# Altium schematic symbol library interface.SchLib: 17 symbols
Pins are listed as number, name and electrical type; pins without a type are passive.

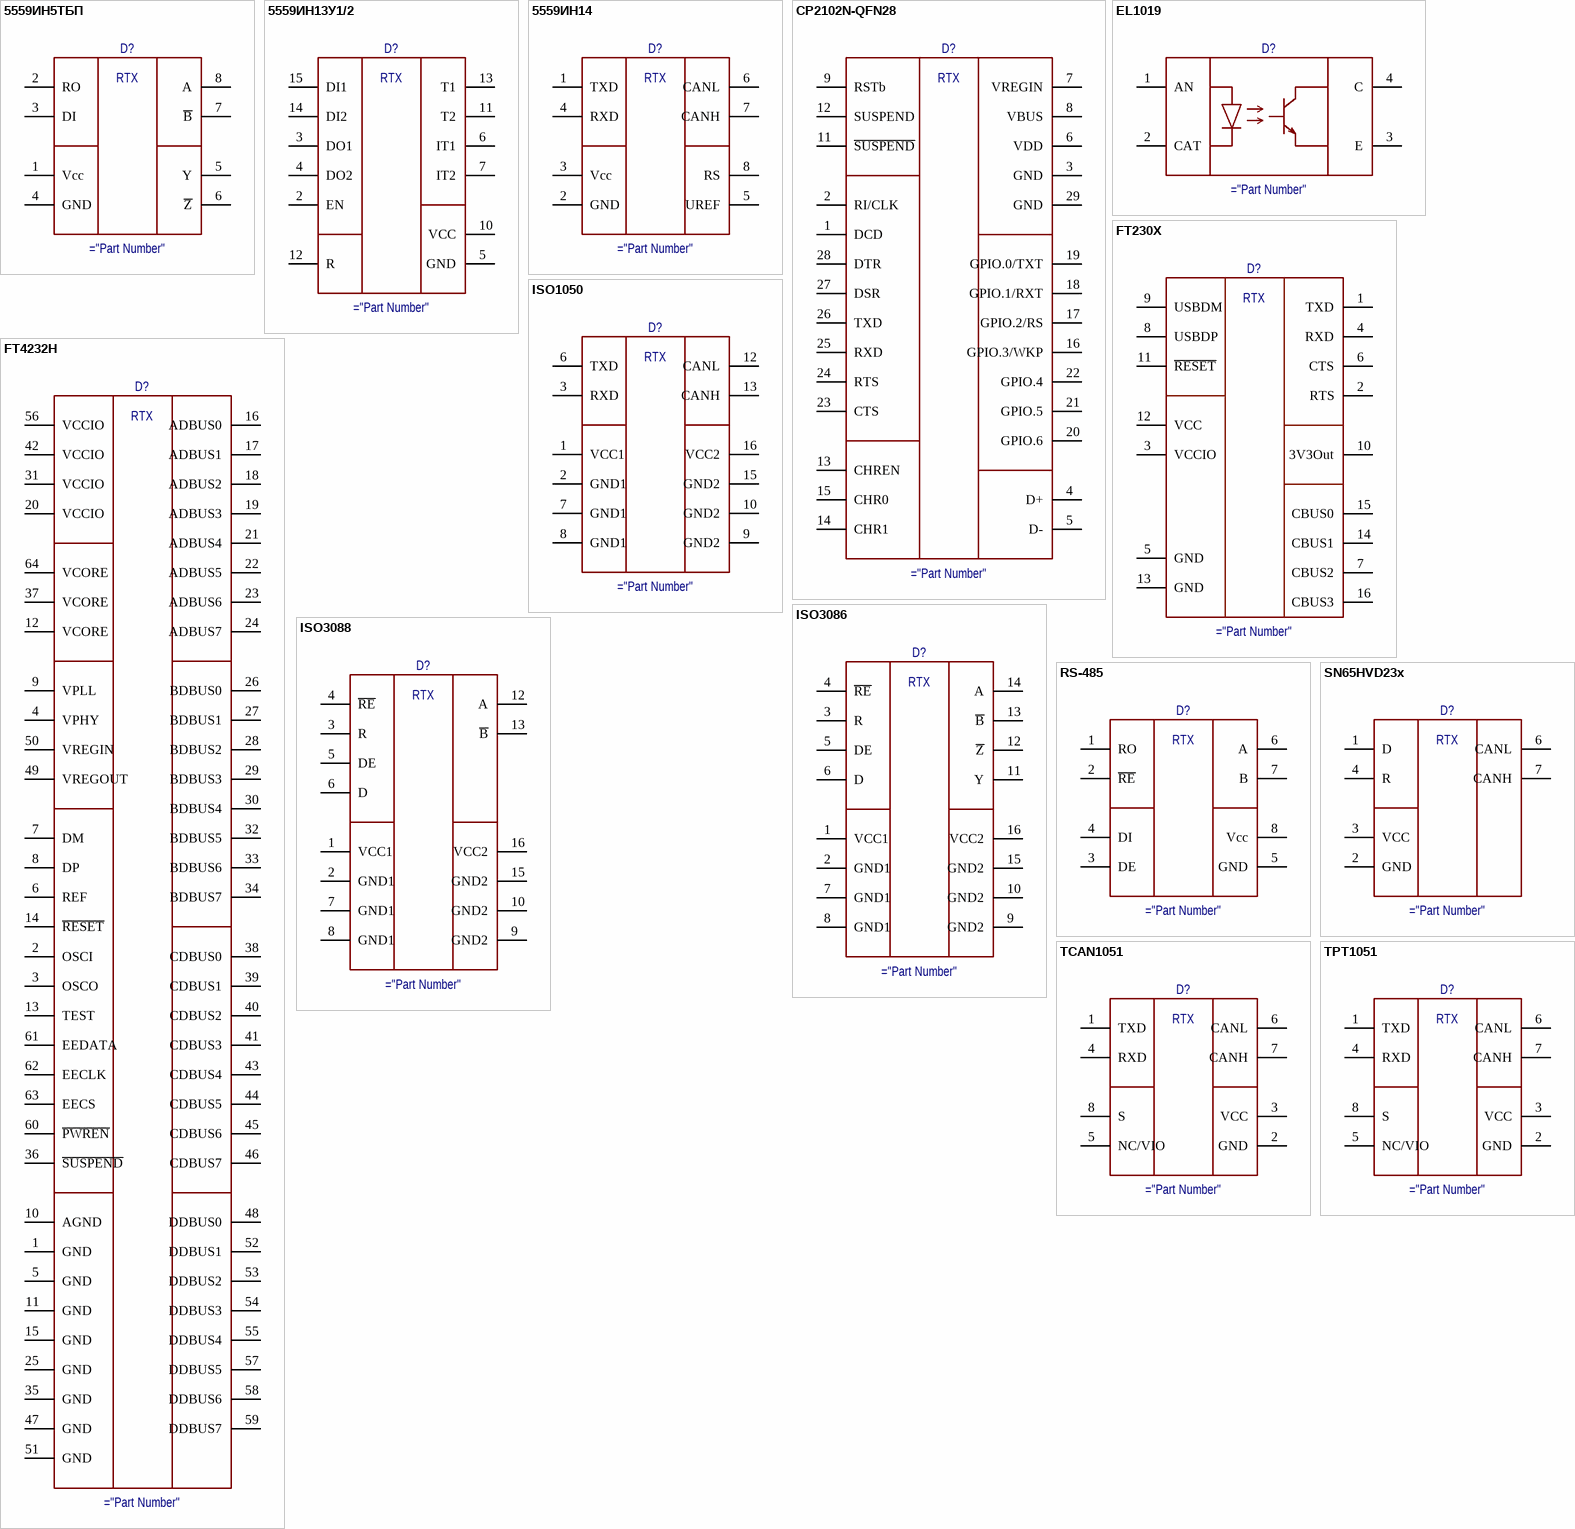
[diagram p0: symbols 5559ИН5ТБП to TPT1051]

## 5559ИН5ТБП
designator D?
RS-422 (Интеграл)
pins: 1 Vcc, 2 RO, 3 DI, 4 GND, 5 Y, 6 ~{Z}, 7 ~{B}, 8 A
text: RTX

## 5559ИН13У1/2
designator D?
МКИО (НПО Физика)
pins: 1 NC hidden, 2 EN, 3 DO1, 4 DO2, 5 GND, 6 IT1, 7 IT2, 8 NC hidden, 9 NC hidden, 10 VCC, 11 T2, 12 R, 13 T1, 14 DI2, 15 DI1, 16 NC hidden
text: RTX

## 5559ИН14
designator D?
CAN
pins: 1 TXD, 2 GND, 3 Vcc, 4 RXD, 5 UREF, 6 CANL, 7 CANH, 8 RS
text: RTX

## CP2102N-QFN28
designator D?
USB-UART
pins: 1 DCD, 2 RI/CLK, 3 GND, 4 D+, 5 D-, 6 VDD, 7 VREGIN, 8 VBUS, 9 RSTb, 10 NC hidden, 11 ~{SUSPEND}, 12 SUSPEND, 13 CHREN, 14 CHR1, 15 CHR0, 16 GPIO.3/WKP, 17 GPIO.2/RS, 18 GPIO.1/RXT, 19 GPIO.0/TXT, 20 GPIO.6, 21 GPIO.5, 22 GPIO.4, 23 CTS, 24 RTS, 25 RXD, 26 TXD, 27 DSR, 28 DTR, 29 GND
text: RTX

## EL1019
designator D?
Opto
pins: 1 AN, 2 CAT, 3 E, 4 C

## FT230X
designator D?
FTDI USB-UART
pins: 1 TXD, 2 RTS, 3 VCCIO, 4 RXD, 5 GND, 6 CTS, 7 CBUS2, 8 USBDP, 9 USBDM, 10 3V3Out, 11 ~{RESET}, 12 VCC, 13 GND, 14 CBUS1, 15 CBUS0, 16 CBUS3
text: RTX

## FT4232H
designator D?
USB-UART/MPSSE
pins: 1 GND, 2 OSCI, 3 OSCO, 4 VPHY, 5 GND, 6 REF, 7 DM, 8 DP, 9 VPLL, 10 AGND, 11 GND, 12 VCORE, 13 TEST, 14 ~{RESET}, 15 GND, 16 ADBUS0, 17 ADBUS1, 18 ADBUS2, 19 ADBUS3, 20 VCCIO, 21 ADBUS4, 22 ADBUS5, 23 ADBUS6, 24 ADBUS7, 25 GND, 26 BDBUS0, 27 BDBUS1, 28 BDBUS2, 29 BDBUS3, 30 BDBUS4, 31 VCCIO, 32 BDBUS5, 33 BDBUS6, 34 BDBUS7, 35 GND, 36 ~{SUSPEND}, 37 VCORE, 38 CDBUS0, 39 CDBUS1, 40 CDBUS2, 41 CDBUS3, 42 VCCIO, 43 CDBUS4, 44 CDBUS5, 45 CDBUS6, 46 CDBUS7, 47 GND, 48 DDBUS0, 49 VREGOUT, 50 VREGIN, 51 GND, 52 DDBUS1, 53 DDBUS2, 54 DDBUS3, 55 DDBUS4, 56 VCCIO, 57 DDBUS5, 58 DDBUS6, 59 DDBUS7, 60 ~{PWREN}, 61 EEDATA, 62 EECLK, 63 EECS, 64 VCORE
text: RTX

## ISO1050
designator D?
IsoCAN
pins: 1 VCC1, 2 GND1, 3 RXD, 4 NC hidden, 5 NC hidden, 6 TXD, 7 GND1, 8 GND1, 9 GND2, 10 GND2, 11 NC hidden, 12 CANL, 13 CANH, 14 NC hidden, 15 GND2, 16 VCC2
text: RTX

## ISO3086
designator D?
IsoRS-485/422
pins: 1 VCC1, 2 GND1, 3 R, 4 ~{RE}, 5 DE, 6 D, 7 GND1, 8 GND1, 9 GND2, 10 GND2, 11 Y, 12 ~{Z}, 13 ~{B}, 14 A, 15 GND2, 16 VCC2
text: RTX

## ISO3088
designator D?
IsoRS-485
pins: 1 VCC1, 2 GND1, 3 R, 4 ~{RE}, 5 DE, 6 D, 7 GND1, 8 GND1, 9 GND2, 10 GND2, 11 NC hidden, 12 A, 13 ~{B}, 14 NC hidden, 15 GND2, 16 VCC2
text: RTX

## RS-485
designator D?
RS-485
pins: 1 RO, 2 ~{RE}, 3 DE, 4 DI, 5 GND, 6 A, 7 B, 8 Vcc
text: RTX

## SN65HVD23x
designator D?
CAN
pins: 1 D, 2 GND, 3 VCC, 4 R, 5 NC hidden, 6 CANL, 7 CANH, 8 NC hidden
text: RTX

## TCAN1051
designator D?
CAN with CAN FD
pins: 1 TXD, 2 GND, 3 VCC, 4 RXD, 5 NC/VIO, 6 CANL, 7 CANH, 8 S
text: RTX

## TPT1051
designator D?
CAN with CAN FD
pins: 1 TXD, 2 GND, 3 VCC, 4 RXD, 5 NC/VIO, 6 CANL, 7 CANH, 8 S
text: RTX

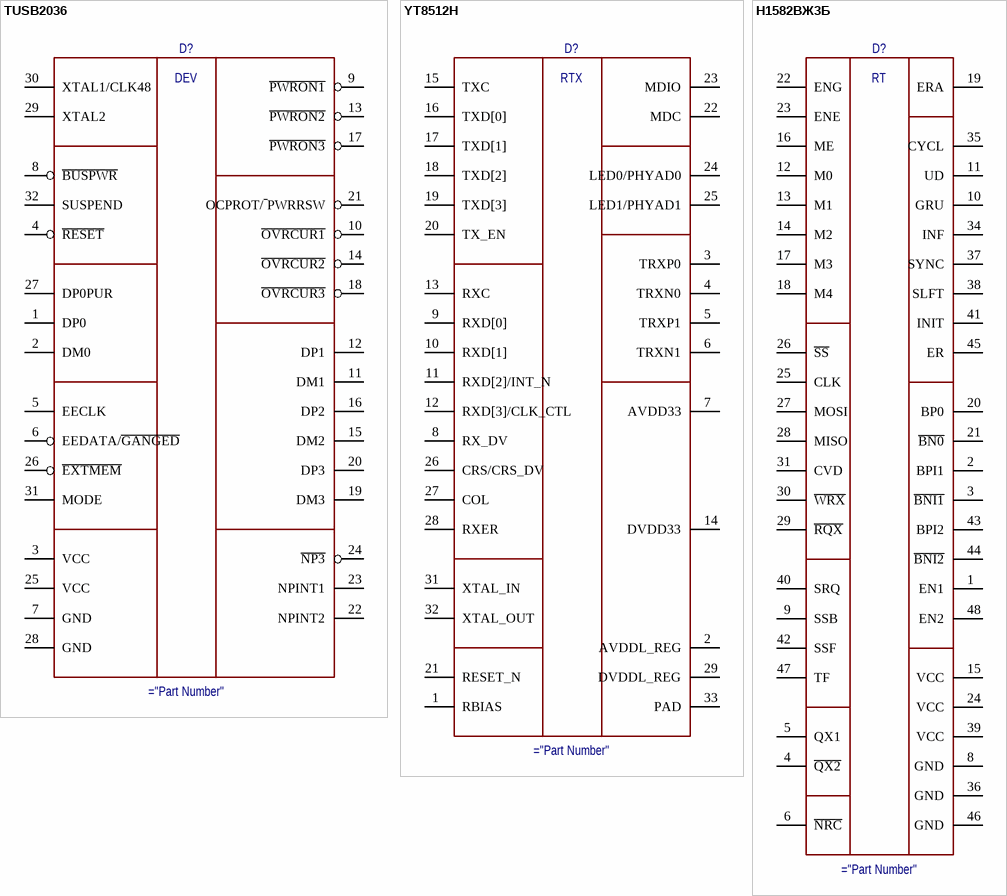
[diagram p1: symbols TUSB2036 to Н1582ВЖ3Б]

## TUSB2036
designator D?
USB Hub
pins: 1 DP0, 2 DM0, 3 VCC, 4 ~{RESET}, 5 EECLK, 6 EEDATA/~{GANGED}, 7 GND, 8 ~{BUSPWR}, 9 ~{PWRON1}, 10 ~{OVRCUR1}, 11 DM1, 12 DP1, 13 ~{PWRON2}, 14 ~{OVRCUR2}, 15 DM2, 16 DP2, 17 ~{PWRON3}, 18 ~{OVRCUR3}, 19 DM3, 20 DP3, 21 OCPROT/~{ }PWRRSW, 22 NPINT2, 23 NPINT1, 24 ~{NP3}, 25 VCC, 26 ~{EXTMEM}, 27 DP0PUR, 28 GND, 29 XTAL2, 30 XTAL1/CLK48, 31 MODE, 32 SUSPEND
text: DEV

## YT8512H
designator D?
Ethernet PHY
pins: 1 RBIAS, 2 AVDDL_REG, 3 TRXP0, 4 TRXN0, 5 TRXP1, 6 TRXN1, 7 AVDD33, 8 RX_DV, 9 RXD[0], 10 RXD[1], 11 RXD[2]/INT_N, 12 RXD[3]/CLK_CTL, 13 RXC, 14 DVDD33, 15 TXC, 16 TXD[0], 17 TXD[1], 18 TXD[2], 19 TXD[3], 20 TX_EN, 21 RESET_N, 22 MDC, 23 MDIO, 24 LED0/PHYAD0, 25 LED1/PHYAD1, 26 CRS/CRS_DV, 27 COL, 28 RXER, 29 DVDDL_REG, 30 NC hidden, 31 XTAL_IN, 32 XTAL_OUT, 33 PAD
text: RTX

## Н1582ВЖ3Б
designator D?
МКИО (НПО Физика)
pins: 1 EN1, 2 BPI1, 3 ~{BNI1}, 4 ~{QX2}, 5 QX1, 6 ~{NRC}, 7 NC hidden, 8 GND, 9 SSB, 10 GRU, 11 UD, 12 M0, 13 M1, 14 M2, 15 VCC, 16 ME, 17 M3, 18 M4, 19 ERA, 20 BP0, 21 ~{BN0}, 22 ENG, 23 ENE, 24 VCC, 25 CLK, 26 ~{SS}, 27 MOSI, 28 MISO, 29 ~{RQX}, 30 ~{WRX}, 31 CVD, 32 NC hidden, 33 NC hidden, 34 INF, 35 CYCL, 36 GND, 37 SYNC, 38 SLFT, 39 VCC, 40 SRQ, 41 INIT, 42 SSF, 43 BPI2, 44 ~{BNI2}, 45 ER, 46 GND, 47 TF, 48 EN2
text: RT